# EAGLE library part RDA5707M (library EAGLE_RDA5807M)
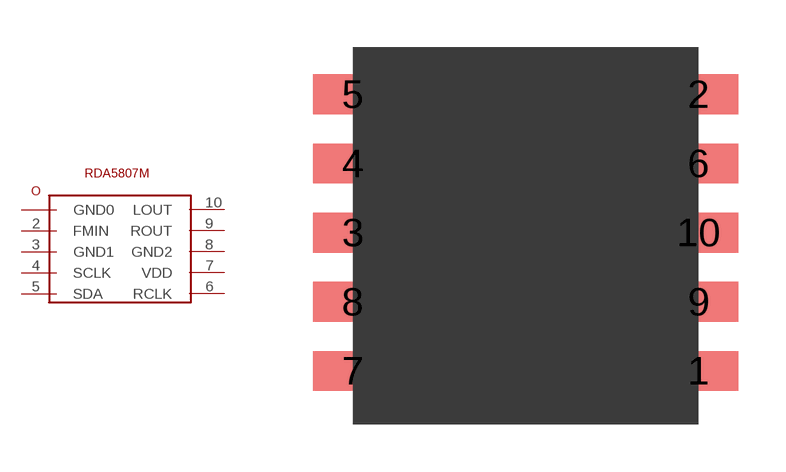
[diagram p1: symbol with the pads of RDA5807M; footprint RDA5807M]

Designator prefix -

## RDA5707M  [RDA5807M]
1  GND0  sup
2  FMIN  in
3  GND1  sup
4  SCLK
5  SDA
6  RCLK
7  VDD  pwr
8  GND2  sup
9  ROUT  out
10  LOUT  out

## Footprint RDA5807M (pad centres in mm)
smd 2.54 x 1.27: 1 11,-10.3; 2 11,-1.5; 3 0,-5.9; 4 0,-3.7; 5 0,-1.5; 6 11,-3.7; 7 0,-10.3; 8 0,-8.1; 9 11,-8.1; 10 11,-5.9